# EAGLE library part DS1337 (library ds1337)
Real-time clock IC
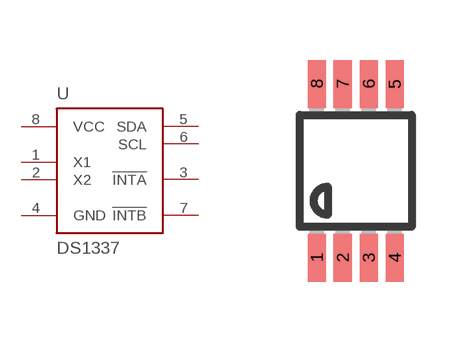
[diagram p1: symbol with the pads of UMAX8; footprint UMAX8]

Designator prefix U

## DS1337  [UMAX8]
1  X1
2  X2
3  !INTA
4  GND
5  SDA
6  SCL
7  !INTB
8  VCC

## Footprint UMAX8 (pad centres in mm)
micro MAX Package
smd 0.45 x 1.2: 1 -0.975,-2.175; 2 -0.325,-2.175; 3 0.325,-2.175; 4 0.975,-2.175; 5 0.975,2.175; 6 0.325,2.175; 7 -0.325,2.175; 8 -0.975,2.175